# Altium footprint library KSS221GLFS.PcbLib: 1 footprints
Each footprint in its own frame and in the unit in brackets; x right, y up, seen from the top. Pads: shape width x height; smd on the part's side, far side on the other; paste and mask are expansions set on the pad; w line width, h text height; cw(c..) or ccw(c..) is an arc to the next point about the centre after c.
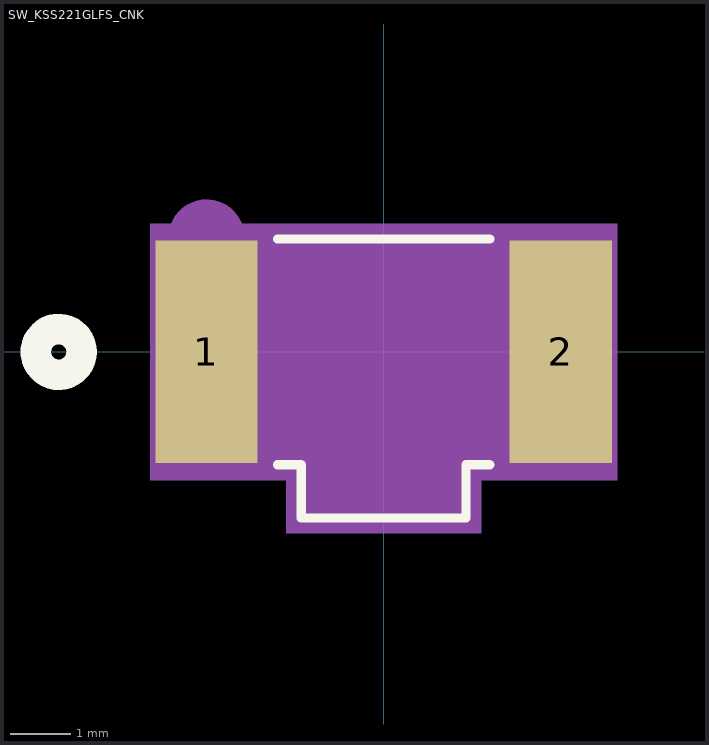
[diagram p0: the footprint, top view; thin cyan lines are the x and y axes]

## SW_KSS221GLFS_CNK [mil]
pads (2):
  rect 67x146 smd paste+0 mask+0: 1(-116.14,0) 2(116.14,0)
Top Overlay:
  circle w20: c-213,0 r15
  lines w6: -69.58,-74 -54,-74 -54,-109 54,-109 54,-74 69.58,-74 ; -69.58,74 69.58,74
Bottom Overlay:
  circle w20: c-213,0 r15
Mechanical 5:
  region: 153,-84 153,84 -153,84 -153,-84 -64,-84 -64,-119 64,-119 64,-84
Mechanical 13:
  circle w20: c-116.14,75 r15
  lines w1: -49,-69 -49,-104 49,-104 49,-69 ; -138,-69 138,-69 138,69 -138,69 -138,-69
Mechanical 15:
  region: 148,-79 148,79 -148,79 -148,-79 -59,-79 -59,-114 59,-114 59,-79
  lines w6: -148,-79 -148,79 148,79 148,-79 59,-79 59,-114 -59,-114 -59,-79 -148,-79
3D body: height 10, standoff 0, extent 0,0 10,10